# Altium integrated library Diode - Rectifier.IntLib: 777 symbols (part 12 of 12)
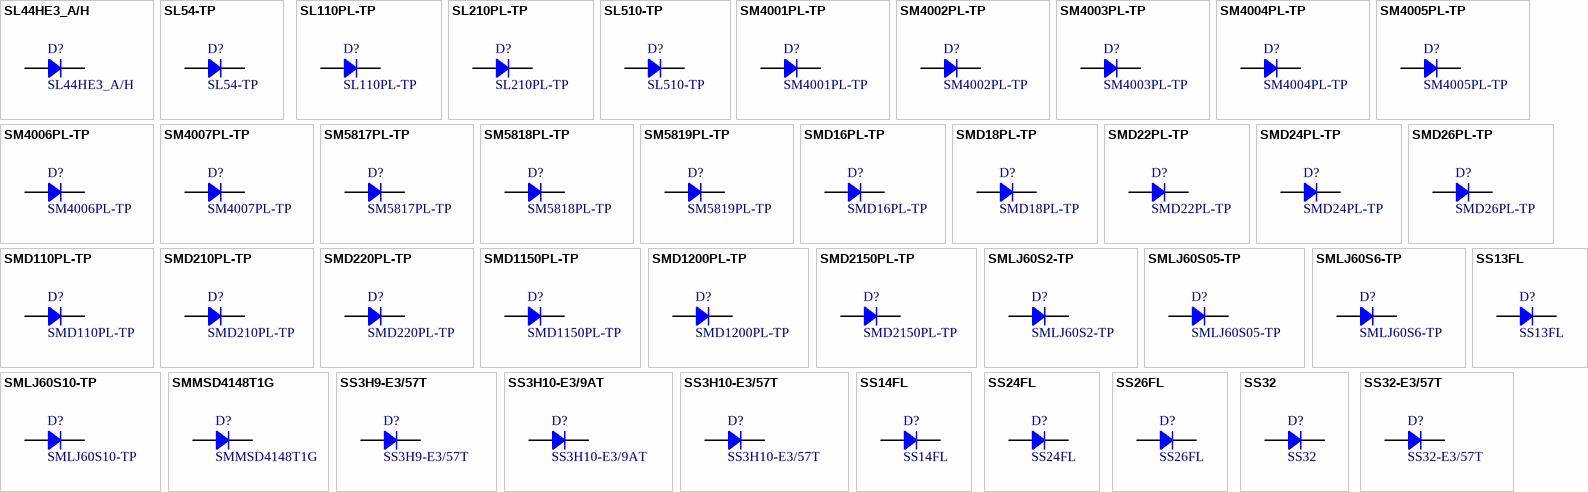
[diagram p30: symbols SL44HE3_A/H to SS32-E3/57T]

## SS14FL
designator D?
DIODE SCHOTTKY 40V 1A SOD123F; Manufacturer: Fairchild/ON Semiconductor; Current Reverse Leakage @ Vr: 30uA @ 40V; Reverse Recovery Time (trr): 5.695ns; Voltage Forward (Vf): 550mV @ 1A; Part Number: SS14FL; PartId: 29258; Supplier 1: Digi-Key; Supplier Part Number 1: SS14FLCT-ND; ComponentLink1Description: Datasheet; ComponentLink1URL: https://www.fairchildsemi.com/datasheets/SS/SS13FL.pdf; ComponentLink2Description: Digi-Key Listing; ComponentLink2URL: https://www.digikey.com/product-detail/en/fairchild-on-semiconductor/SS14FL/SS14FLCT-ND/5305092; Junction Operating Temperature: -55C ~ 125C; Price: 0.36; Type: Schottky; Device Package: SOD-123F; Voltage DC Reverse (Vr): 40V; Current Rectified: 1A
footprint SOD123F
pins: 1, 2

## SS24FL
designator D?
DIODE SCHOTTKY 40V 2A SOD123F; Manufacturer: Fairchild/ON Semiconductor; Current Reverse Leakage @ Vr: 100uA @ 40V; Reverse Recovery Time (trr): 9.495ns; Voltage Forward (Vf): 550mV @ 2A; Part Number: SS24FL; PartId: 29253; Supplier 1: Digi-Key; Supplier Part Number 1: SS24FLCT-ND; ComponentLink1Description: Datasheet; ComponentLink1URL: https://www.fairchildsemi.com/datasheets/SS/SS24FL.pdf; ComponentLink2Description: Digi-Key Listing; ComponentLink2URL: https://www.digikey.com/product-detail/en/fairchild-on-semiconductor/SS24FL/SS24FLCT-ND/5305093; Junction Operating Temperature: -55C ~ 125C; Price: 0.33; Type: Schottky; Device Package: SOD-123F; Voltage DC Reverse (Vr): 40V; Current Rectified: 2A
footprint SOD123F
pins: 1, 2

## SS26FL
designator D?
DIODE SCHOTTKY 60V 1A SOD123F; Manufacturer: Fairchild/ON Semiconductor; Current Reverse Leakage @ Vr: 40uA @ 60V; Reverse Recovery Time (trr): 8.26ns; Current Rectified: 2A; Voltage Forward (Vf): 700mV @ 2A; Part Number: SS26FL; PartId: 29271; Supplier 1: Digi-Key; Supplier Part Number 1: SS26FLCT-ND; ComponentLink1Description: Datasheet; ComponentLink1URL: https://www.fairchildsemi.com/datasheets/SS/SS24FL.pdf; ComponentLink2Description: Digi-Key Listing; ComponentLink2URL: https://www.digikey.com/product-detail/en/fairchild-on-semiconductor/SS26FL/SS26FLCT-ND/5305094; Junction Operating Temperature: -55C ~ 125C; Price: 0.4; Type: Schottky; Device Package: SOD-123F; Voltage DC Reverse (Vr): 60V
footprint SOD123F
pins: 1, 2

## SS32
designator D?
DIODE SCHOTTKY 20V 3A SMC; Manufacturer: Fairchild/ON Semiconductor; Current Reverse Leakage @ Vr: 500uA @ 20V; Voltage Forward (Vf): 500mV @ 3A; Part Number: SS32; PartId: 27730; Supplier 1: Digi-Key; Supplier Part Number 1: SS32CT-ND; ComponentLink1Description: Datasheet; ComponentLink1URL: https://www.fairchildsemi.com/datasheets/SS/SS34.pdf; ComponentLink2Description: Digi-Key Listing; ComponentLink2URL: https://www.digikey.com/product-detail/en/fairchild-on-semiconductor/SS32/SS32CT-ND/3042752; Junction Operating Temperature: -55C ~ 150C; Price: 0.54; Type: Schottky; Device Package: DO-214AB, SMC; Voltage DC Reverse (Vr): 20V; Current Rectified: 3A
footprint ST DO214AB SMC
pins: 1, 2

## SS32-E3/57T
designator D?
DIODE SCHOTTKY 20V 3A DO214AB; Manufacturer: Vishay Semiconductor Diodes Division; Current Reverse Leakage @ Vr: 500uA @ 20V; Voltage Forward (Vf): 500mV @ 3A; Part Number: SS32-E3/57T; PartId: 27744; Supplier 1: Digi-Key; Supplier Part Number 1: SS32-E3/57TGICT-ND; ComponentLink1Description: Datasheet; ComponentLink1URL: http://www.vishay.com/docs/88751/ss32.pdf; ComponentLink2Description: Digi-Key Listing; ComponentLink2URL: https://www.digikey.com/product-detail/en/vishay-semiconductor-diodes-division/SS32-E3-57T/SS32-E3-57TGICT-ND/1091683; Junction Operating Temperature: -55C ~ 125C; Price: 0.47; Type: Schottky; Device Package: DO-214AB, SMC; Voltage DC Reverse (Vr): 20V; Current Rectified: 3A
footprint ST DO214AB SMC
pins: 1, 2

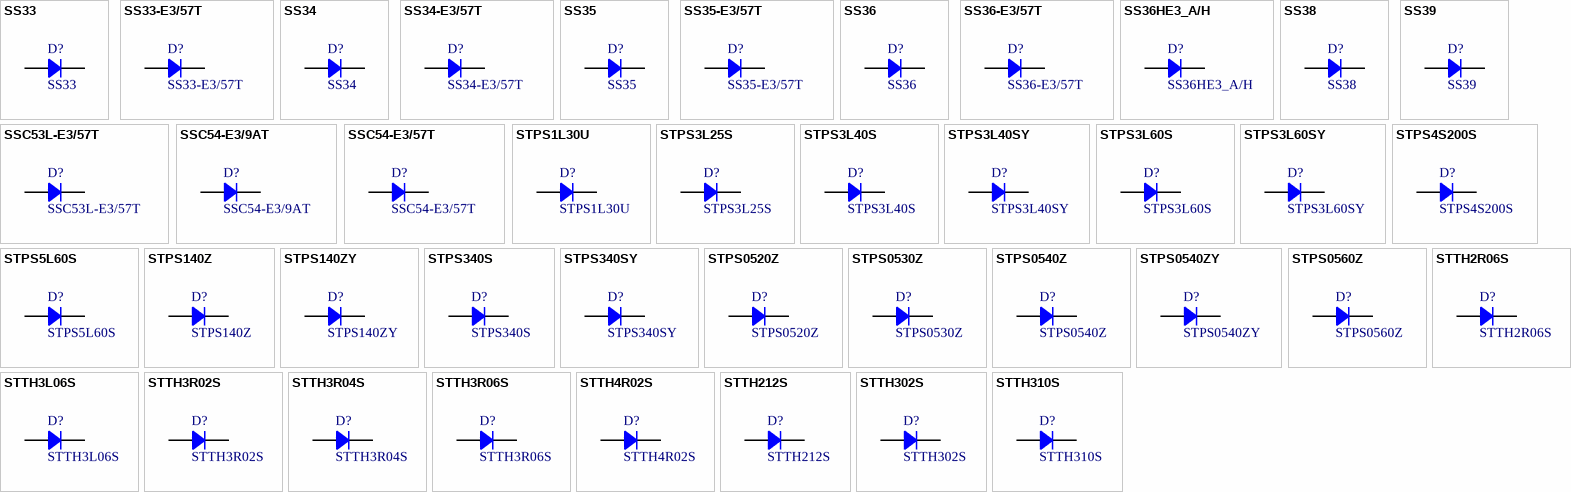
[diagram p18: symbols SS33 to STTH310S]

## SS33
designator D?
DIODE SCHOTTKY 30V 3A SMC; Manufacturer: Fairchild/ON Semiconductor; Current Reverse Leakage @ Vr: 500uA @ 30V; Voltage Forward (Vf): 500mV @ 3A; Part Number: SS33; PartId: 27901; Supplier 1: Digi-Key; Supplier Part Number 1: SS33FSCT-ND; ComponentLink1Description: Datasheet; ComponentLink1URL: https://www.fairchildsemi.com/datasheets/SS/SS34.pdf; ComponentLink2Description: Digi-Key Listing; ComponentLink2URL: https://www.digikey.com/product-detail/en/fairchild-on-semiconductor/SS33/SS33FSCT-ND/3042753; Junction Operating Temperature: -55C ~ 150C; Price: 0.54; Type: Schottky; Device Package: DO-214AB, SMC; Voltage DC Reverse (Vr): 30V; Current Rectified: 3A
footprint ST DO214AB SMC
pins: 1, 2

## SS33-E3/57T
designator D?
DIODE SCHOTTKY 30V 3A DO214AB; Manufacturer: Vishay Semiconductor Diodes Division; Current Reverse Leakage @ Vr: 500uA @ 30V; Voltage Forward (Vf): 500mV @ 3A; Part Number: SS33-E3/57T; PartId: 27899; Supplier 1: Digi-Key; Supplier Part Number 1: SS33-E3/57TGICT-ND; ComponentLink1Description: Datasheet; ComponentLink1URL: http://www.vishay.com/docs/88751/ss32.pdf; ComponentLink2Description: Digi-Key Listing; ComponentLink2URL: https://www.digikey.com/product-detail/en/vishay-semiconductor-diodes-division/SS33-E3-57T/SS33-E3-57TGICT-ND/3025929; Junction Operating Temperature: -55C ~ 125C; Price: 0.47; Type: Schottky; Device Package: DO-214AB, SMC; Voltage DC Reverse (Vr): 30V; Current Rectified: 3A
footprint ST DO214AB SMC
pins: 1, 2

## SS34
designator D?
DIODE SCHOTTKY 40V 3A SMC; Manufacturer: Fairchild/ON Semiconductor; Current Reverse Leakage @ Vr: 500uA @ 40V; Voltage Forward (Vf): 500mV @ 3A; Part Number: SS34; PartId: 27685; Supplier 1: Digi-Key; Supplier Part Number 1: SS34FSCT-ND; ComponentLink1Description: Datasheet; ComponentLink1URL: https://www.fairchildsemi.com/datasheets/SS/SS34.pdf; ComponentLink2Description: Digi-Key Listing; ComponentLink2URL: https://www.digikey.com/product-detail/en/fairchild-on-semiconductor/SS34/SS34FSCT-ND/2094459; Junction Operating Temperature: -55C ~ 150C; Price: 0.54; Type: Schottky; Device Package: DO-214AB, SMC; Voltage DC Reverse (Vr): 40V; Current Rectified: 3A
footprint ST DO214AB SMC
pins: 1, 2

## SS34-E3/57T
designator D?
DIODE SCHOTTKY 40V 3A DO214AB; Manufacturer: Vishay Semiconductor Diodes Division; Current Reverse Leakage @ Vr: 500uA @ 40V; Voltage Forward (Vf): 500mV @ 3A; Part Number: SS34-E3/57T; PartId: 27743; Supplier 1: Digi-Key; Supplier Part Number 1: SS34-E3/57TGICT-ND; ComponentLink1Description: Datasheet; ComponentLink1URL: http://www.vishay.com/docs/88751/ss32.pdf; ComponentLink2Description: Digi-Key Listing; ComponentLink2URL: https://www.digikey.com/product-detail/en/vishay-semiconductor-diodes-division/SS34-E3-57T/SS34-E3-57TGICT-ND/1091684; Junction Operating Temperature: -55C ~ 125C; Price: 0.47; Type: Schottky; Device Package: DO-214AB, SMC; Voltage DC Reverse (Vr): 40V; Current Rectified: 3A
footprint ST DO214AB SMC
pins: 1, 2

## SS35
designator D?
DIODE SCHOTTKY 50V 3A SMC; Manufacturer: Fairchild/ON Semiconductor; Current Reverse Leakage @ Vr: 500uA @ 50V; Voltage Forward (Vf): 750mV @ 3A; Part Number: SS35; PartId: 27776; Supplier 1: Digi-Key; Supplier Part Number 1: SS35FSCT-ND; ComponentLink1Description: Datasheet; ComponentLink1URL: https://www.fairchildsemi.com/datasheets/SS/SS34.pdf; ComponentLink2Description: Digi-Key Listing; ComponentLink2URL: https://www.digikey.com/product-detail/en/fairchild-on-semiconductor/SS35/SS35FSCT-ND/3478328; Junction Operating Temperature: -55C ~ 150C; Price: 0.58; Type: Schottky; Device Package: DO-214AB, SMC; Voltage DC Reverse (Vr): 50V; Current Rectified: 3A
footprint ST DO214AB SMC
pins: 1, 2

## SS35-E3/57T
designator D?
DIODE SCHOTTKY 50V 3A DO214AB; Manufacturer: Vishay Semiconductor Diodes Division; Current Reverse Leakage @ Vr: 500uA @ 50V; Voltage Forward (Vf): 750mV @ 3A; Part Number: SS35-E3/57T; PartId: 27783; Supplier 1: Digi-Key; Supplier Part Number 1: SS35-E3/57TGICT-ND; ComponentLink1Description: Datasheet; ComponentLink1URL: http://www.vishay.com/docs/88751/ss32.pdf; ComponentLink2Description: Digi-Key Listing; ComponentLink2URL: https://www.digikey.com/product-detail/en/vishay-semiconductor-diodes-division/SS35-E3-57T/SS35-E3-57TGICT-ND/3025930; Junction Operating Temperature: -55C ~ 150C; Price: 0.54; Type: Schottky; Device Package: DO-214AB, SMC; Voltage DC Reverse (Vr): 50V; Current Rectified: 3A
footprint ST DO214AB SMC
pins: 1, 2

## SS36
designator D?
DIODE SCHOTTKY 60V 3A SMC; Manufacturer: Fairchild/ON Semiconductor; Current Reverse Leakage @ Vr: 500uA @ 60V; Voltage Forward (Vf): 750mV @ 3A; Part Number: SS36; PartId: 27845; Supplier 1: Digi-Key; Supplier Part Number 1: SS36FSCT-ND; ComponentLink1Description: Datasheet; ComponentLink1URL: https://www.fairchildsemi.com/datasheets/SS/SS34.pdf; ComponentLink2Description: Digi-Key Listing; ComponentLink2URL: https://www.digikey.com/product-detail/en/fairchild-on-semiconductor/SS36/SS36FSCT-ND/3042754; Junction Operating Temperature: -55C ~ 150C; Price: 0.58; Type: Schottky; Device Package: DO-214AB, SMC; Voltage DC Reverse (Vr): 60V; Current Rectified: 3A
footprint ST DO214AB SMC
pins: 1, 2

## SS36-E3/57T
designator D?
DIODE SCHOTTKY 60V 3A DO214AB; Manufacturer: Vishay Semiconductor Diodes Division; Current Reverse Leakage @ Vr: 500uA @ 60V; Voltage Forward (Vf): 750mV @ 3A; Part Number: SS36-E3/57T; PartId: 27691; Supplier 1: Digi-Key; Supplier Part Number 1: SS36-E3/57TGICT-ND; ComponentLink1Description: Datasheet; ComponentLink1URL: http://www.vishay.com/docs/88751/ss32.pdf; ComponentLink2Description: Digi-Key Listing; ComponentLink2URL: https://www.digikey.com/product-detail/en/vishay-semiconductor-diodes-division/SS36-E3-57T/SS36-E3-57TGICT-ND/1091685; Junction Operating Temperature: -55C ~ 150C; Price: 0.48; Type: Schottky; Device Package: DO-214AB, SMC; Voltage DC Reverse (Vr): 60V; Current Rectified: 3A
footprint ST DO214AB SMC
pins: 1, 2

## SS36HE3_A/H
designator D?
DIODE SCHOTTKY 60V 3A DO214AB; Manufacturer: Vishay Semiconductor Diodes Division; Current Reverse Leakage @ Vr: 500uA @ 60V; Voltage Forward (Vf): 750mV @ 3A; Part Number: SS36HE3_A/H; PartId: 27786; Supplier 1: Digi-Key; Supplier Part Number 1: SS36HE3_A/HGICT-ND; ComponentLink1Description: Datasheet; ComponentLink1URL: http://www.vishay.com/docs/88751/ss32.pdf; ComponentLink2Description: Digi-Key Listing; ComponentLink2URL: https://www.digikey.com/product-detail/en/vishay-semiconductor-diodes-division/SS36HE3_A-H/SS36HE3_A-HGICT-ND/4743580; Junction Operating Temperature: -55C ~ 150C; Price: 0.66; Type: Schottky; Device Package: DO-214AB, SMC; Voltage DC Reverse (Vr): 60V; Current Rectified: 3A
footprint ST DO214AB SMC
pins: 1, 2

## SS38
designator D?
DIODE SCHOTTKY 80V 3A SMC; Manufacturer: Fairchild/ON Semiconductor; Current Reverse Leakage @ Vr: 500uA @ 80V; Voltage Forward (Vf): 850mV @ 3A; Part Number: SS38; PartId: 27737; Supplier 1: Digi-Key; Supplier Part Number 1: SS38FSCT-ND; ComponentLink1Description: Datasheet; ComponentLink1URL: https://www.fairchildsemi.com/datasheets/SS/SS34.pdf; ComponentLink2Description: Digi-Key Listing; ComponentLink2URL: https://www.digikey.com/product-detail/en/fairchild-on-semiconductor/SS38/SS38FSCT-ND/3478346; Junction Operating Temperature: -55C ~ 150C; Price: 0.6; Type: Schottky; Device Package: DO-214AB, SMC; Voltage DC Reverse (Vr): 80V; Current Rectified: 3A
footprint ST DO214AB SMC
pins: 1, 2

## SS39
designator D?
DIODE SCHOTTKY 90V 3A SMC; Manufacturer: Fairchild/ON Semiconductor; Current Reverse Leakage @ Vr: 500uA @ 90V; Voltage Forward (Vf): 850mV @ 3A; Part Number: SS39; PartId: 27847; Supplier 1: Digi-Key; Supplier Part Number 1: SS39CT-ND; ComponentLink1Description: Datasheet; ComponentLink1URL: https://www.fairchildsemi.com/datasheets/SS/SS34.pdf; ComponentLink2Description: Digi-Key Listing; ComponentLink2URL: https://www.digikey.com/product-detail/en/fairchild-on-semiconductor/SS39/SS39CT-ND/4314866; Junction Operating Temperature: -55C ~ 150C; Price: 0.6; Type: Schottky; Device Package: DO-214AB, SMC; Voltage DC Reverse (Vr): 90V; Current Rectified: 3A
footprint ST DO214AB SMC
pins: 1, 2

## SSC53L-E3/57T
designator D?
DIODE SCHOTTKY 30V 5A DO214AB; Manufacturer: Vishay Semiconductor Diodes Division; Current Reverse Leakage @ Vr: 700uA @ 30V; Voltage Forward (Vf): 450mV @ 5A; Part Number: SSC53L-E3/57T; PartId: 27704; Supplier 1: Digi-Key; Supplier Part Number 1: SSC53L-E3/57TGICT-ND; ComponentLink1Description: Datasheet; ComponentLink1URL: http://www.vishay.com/docs/88885/ssc53l.pdf; ComponentLink2Description: Digi-Key Listing; ComponentLink2URL: https://www.digikey.com/product-detail/en/vishay-semiconductor-diodes-division/SSC53L-E3-57T/SSC53L-E3-57TGICT-ND/1091693; Junction Operating Temperature: -65C ~ 150C; Price: 0.61; Type: Schottky; Device Package: DO-214AB, SMC; Voltage DC Reverse (Vr): 30V; Current Rectified: 5A
footprint ST DO214AB SMC
pins: 1, 2

## SSC54-E3/9AT
designator D?
DIODE SCHOTTKY 40V 5A DO214AB; Manufacturer: Vishay Semiconductor Diodes Division; Current Reverse Leakage @ Vr: 500uA @ 40V; Voltage Forward (Vf): 490mV @ 5A; Part Number: SSC54-E3/9AT; PartId: 27741; Supplier 1: Digi-Key; Supplier Part Number 1: SSC54-E3/9ATGICT-ND; ComponentLink1Description: Datasheet; ComponentLink1URL: http://www.vishay.com/docs/88885/ssc53l.pdf; ComponentLink2Description: Digi-Key Listing; ComponentLink2URL: https://www.digikey.com/product-detail/en/vishay-semiconductor-diodes-division/SSC54-E3-9AT/SSC54-E3-9ATGICT-ND/3847580; Junction Operating Temperature: -65C ~ 150C; Price: 0.59; Type: Schottky; Device Package: DO-214AB, SMC; Voltage DC Reverse (Vr): 40V; Current Rectified: 5A
footprint ST DO214AB SMC
pins: 1, 2

## SSC54-E3/57T
designator D?
DIODE SCHOTTKY 40V 5A DO214AB; Manufacturer: Vishay Semiconductor Diodes Division; Current Reverse Leakage @ Vr: 500uA @ 40V; Voltage Forward (Vf): 490mV @ 5A; Part Number: SSC54-E3/57T; PartId: 27703; Supplier 1: Digi-Key; Supplier Part Number 1: SSC54-E3/57TGICT-ND; ComponentLink1Description: Datasheet; ComponentLink1URL: http://www.vishay.com/docs/88885/ssc53l.pdf; ComponentLink2Description: Digi-Key Listing; ComponentLink2URL: https://www.digikey.com/product-detail/en/vishay-semiconductor-diodes-division/SSC54-E3-57T/SSC54-E3-57TGICT-ND/1091694; Junction Operating Temperature: -65C ~ 150C; Price: 0.59; Type: Schottky; Device Package: DO-214AB, SMC; Voltage DC Reverse (Vr): 40V; Current Rectified: 5A
footprint ST DO214AB SMC
pins: 1, 2

## STPS1L30U
designator D?
DIODE SCHOTTKY 30V 1A SMB; Manufacturer: STMicroelectronics; Type: Surface Mount; Current Reverse Leakage @ Vr: 200uA @ 30V; Voltage Forward (Vf): 395mV @ 1A; Part Number: STPS1L30U; PartId: 7128; Supplier 1: Digi-Key; Supplier Part Number 1: 497-2468-2-ND; ComponentLink1Description: Datasheet; ComponentLink1URL: http://www.st.com/web/en/resource/technical/document/datasheet/CD00001323.pdf; ComponentLink2Description: Digi-Key Listing; ComponentLink2URL: http://www.digikey.ca/product-detail/en/STPS1L30U/497-2468-2-ND/603493; Junction Operating Temperature: 150C (Max); Price: 0.1443; Device Package: DO-214AA, SMB; Reverse Recovery Time (trr): -; Voltage DC Reverse (Vr): 30V; Current Rectified: 1A
footprint DO214AA SMB
pins: 1, 2

## STPS3L25S
designator D?
DIODE SCHOTTKY 25V 3A SMC; Manufacturer: STMicroelectronics; Current Reverse Leakage @ Vr: 90uA @ 25V; Voltage Forward (Vf): 490mV @ 3A; Part Number: STPS3L25S; PartId: 27780; Supplier 1: Digi-Key; Supplier Part Number 1: 497-3760-1-ND; ComponentLink1Description: Datasheet; ComponentLink1URL: http://www.st.com/content/ccc/resource/technical/document/datasheet/02/aa/f1/a2/d1/29/4b/ea/CD00001528.pdf/files/CD00001528.pdf/jcr:content/translations/en.CD00001528.pdf; ComponentLink2Description: Digi-Key Listing; ComponentLink2URL: https://www.digikey.com/product-detail/en/stmicroelectronics/STPS3L25S/497-3760-1-ND/691930; Junction Operating Temperature: 150C (Max); Price: 0.64; Type: Schottky; Device Package: DO-214AB, SMC; Voltage DC Reverse (Vr): 25V; Current Rectified: 3A
footprint ST DO214AB SMC
pins: 1, 2

## STPS3L40S
designator D?
DIODE SCHOTTKY 40V 3A SMC; Manufacturer: STMicroelectronics; Current Reverse Leakage @ Vr: 100uA @ 40V; Voltage Forward (Vf): 500mV @ 3A; Part Number: STPS3L40S; PartId: 27854; Supplier 1: Digi-Key; Supplier Part Number 1: 497-4673-1-ND; ComponentLink1Description: Datasheet; ComponentLink1URL: http://www.st.com/content/ccc/resource/technical/document/datasheet/group1/48/52/98/4d/1d/c7/40/65/CD00002082/files/CD00002082.pdf/jcr:content/translations/en.CD00002082.pdf; ComponentLink2Description: Digi-Key Listing; ComponentLink2URL: https://www.digikey.com/product-detail/en/stmicroelectronics/STPS3L40S/497-4673-1-ND/810985; Junction Operating Temperature: 150C (Max); Price: 0.66; Type: Schottky; Device Package: DO-214AB, SMC; Voltage DC Reverse (Vr): 40V; Current Rectified: 3A
footprint ST DO214AB SMC
pins: 1, 2

## STPS3L40SY
designator D?
DIODE SCHOTTKY 40V 3A SMC; Manufacturer: STMicroelectronics; Current Reverse Leakage @ Vr: 100uA @ 40V; Voltage Forward (Vf): 500mV @ 3A; Part Number: STPS3L40SY; PartId: 27870; Supplier 1: Digi-Key; Supplier Part Number 1: 497-12868-1-ND; ComponentLink1Description: Datasheet; ComponentLink1URL: http://www.st.com/content/ccc/resource/technical/document/datasheet/b1/99/92/36/e9/9b/4e/52/DM00024410.pdf/files/DM00024410.pdf/jcr:content/translations/en.DM00024410.pdf; ComponentLink2Description: Digi-Key Listing; ComponentLink2URL: https://www.digikey.com/product-detail/en/stmicroelectronics/STPS3L40SY/497-12868-1-ND/3043779; Junction Operating Temperature: -40C ~ 150C; Price: 0.89; Type: Schottky; Device Package: DO-214AB, SMC; Voltage DC Reverse (Vr): 40V; Current Rectified: 3A
footprint ST DO214AB SMC
pins: 1, 2

## STPS3L60S
designator D?
DIODE SCHOTTKY 60V 3A SMC; Manufacturer: STMicroelectronics; Current Reverse Leakage @ Vr: 55uA @ 60V; Voltage Forward (Vf): 700mV @ 3A; Part Number: STPS3L60S; PartId: 27721; Supplier 1: Digi-Key; Supplier Part Number 1: 497-2454-1-ND; ComponentLink1Description: Datasheet; ComponentLink1URL: http://www.st.com/content/ccc/resource/technical/document/datasheet/group0/36/0d/d1/5d/3b/c8/42/c0/CD00001711/files/CD00001711.pdf/jcr:content/translations/en.CD00001711.pdf; ComponentLink2Description: Digi-Key Listing; ComponentLink2URL: https://www.digikey.com/product-detail/en/stmicroelectronics/STPS3L60S/497-2454-1-ND/603836; Junction Operating Temperature: 150C (Max); Price: 0.5; Type: Schottky; Device Package: DO-214AB, SMC; Voltage DC Reverse (Vr): 60V; Current Rectified: 3A
footprint ST DO214AB SMC
pins: 1, 2

## STPS3L60SY
designator D?
DIODE SCHOTTKY 60V 3A SMC; Manufacturer: STMicroelectronics; Current Reverse Leakage @ Vr: 55uA @ 60V; Voltage Forward (Vf): 700mV @ 3A; Part Number: STPS3L60SY; PartId: 27868; Supplier 1: Digi-Key; Supplier Part Number 1: 497-12333-1-ND; ComponentLink1Description: Datasheet; ComponentLink1URL: http://www.st.com/content/ccc/resource/technical/document/datasheet/53/5c/9e/64/96/26/47/ae/CD00274270.pdf/files/CD00274270.pdf/jcr:content/translations/en.CD00274270.pdf; ComponentLink2Description: Digi-Key Listing; ComponentLink2URL: https://www.digikey.com/product-detail/en/stmicroelectronics/STPS3L60SY/497-12333-1-ND/2826738; Junction Operating Temperature: -40C ~ 150C; Price: 0.85; Type: Schottky; Device Package: DO-214AB, SMC; Voltage DC Reverse (Vr): 60V; Current Rectified: 3A
footprint ST DO214AB SMC
pins: 1, 2

## STPS4S200S
designator D?
DIODE RECT SCHOTTKY 200V 4A; Manufacturer: STMicroelectronics; Current Reverse Leakage @ Vr: 5uA @ 200V; Voltage Forward (Vf): 870mV @ 4A; Part Number: STPS4S200S; PartId: 27735; Supplier 1: Digi-Key; Supplier Part Number 1: 497-16320-1-ND; ComponentLink1Description: Datasheet; ComponentLink1URL: http://www.st.com/content/ccc/resource/technical/document/datasheet/f1/ca/76/fb/56/90/40/1c/DM00136818.pdf/files/DM00136818.pdf/jcr:content/translations/en.DM00136818.pdf; ComponentLink2Description: Digi-Key Listing; ComponentLink2URL: https://www.digikey.com/product-detail/en/stmicroelectronics/STPS4S200S/497-16320-1-ND/5848346; Junction Operating Temperature: 175C (Max); Price: 0.58; Type: Schottky; Device Package: DO-214AB, SMC; Voltage DC Reverse (Vr): 200V; Current Rectified: 4A
footprint ST DO214AB SMC
pins: 1, 2

## STPS5L60S
designator D?
DIODE SCHOTTKY 60V 5A SMC; Manufacturer: STMicroelectronics; Current Reverse Leakage @ Vr: 220uA @ 60V; Voltage Forward (Vf): 520mV @ 5A; Part Number: STPS5L60S; PartId: 27696; Supplier 1: Digi-Key; Supplier Part Number 1: 497-8487-1-ND; ComponentLink1Description: Datasheet; ComponentLink1URL: http://www.st.com/content/ccc/resource/technical/document/datasheet/57/3c/bc/f9/25/f5/43/2b/CD00002924.pdf/files/CD00002924.pdf/jcr:content/translations/en.CD00002924.pdf; ComponentLink2Description: Digi-Key Listing; ComponentLink2URL: https://www.digikey.com/product-detail/en/stmicroelectronics/STPS5L60S/497-8487-1-ND/1985325; Junction Operating Temperature: 150C (Max); Price: 0.69; Type: Schottky; Device Package: DO-214AB, SMC; Voltage DC Reverse (Vr): 60V; Current Rectified: 5A
footprint ST DO214AB SMC
pins: 1, 2

## STPS140Z
designator D?
DIODE SCHOTTKY 40V 1A SOD123; Manufacturer: STMicroelectronics; Current Reverse Leakage @ Vr: 40uA @ 400V; Current Rectified: 1A (DC); Voltage Forward (Vf): 550mV @ 1A; Part Number: STPS140Z; PartId: 29395; Supplier 1: Digi-Key; Supplier Part Number 1: 497-7546-1-ND; ComponentLink1Description: Datasheet; ComponentLink1URL: http://www.st.com/content/ccc/resource/technical/document/datasheet/e8/dc/78/46/6d/26/4e/a0/CD00001851.pdf/files/CD00001851.pdf/jcr:content/translations/en.CD00001851.pdf; ComponentLink2Description: Digi-Key Listing; ComponentLink2URL: https://www.digikey.com/product-detail/en/stmicroelectronics/STPS140Z/497-7546-1-ND/1883349; Junction Operating Temperature: 150C (Max); Price: 0.45; Type: Schottky; Device Package: SOD-123; Voltage DC Reverse (Vr): 40V
footprint SOD-123
pins: 1, 2

## STPS140ZY
designator D?
DIODE SCHOTTKY 40V 1A SOD123; Manufacturer: STMicroelectronics; Current Reverse Leakage @ Vr: 40uA @ 400V; Current Rectified: 1A (DC); Voltage Forward (Vf): 550mV @ 1A; Part Number: STPS140ZY; PartId: 29432; Supplier 1: Digi-Key; Supplier Part Number 1: 497-13845-1-ND; ComponentLink1Description: Datasheet; ComponentLink1URL: http://www.st.com/content/ccc/resource/technical/document/datasheet/98/f4/9b/66/f4/9b/4e/52/DM00068605.pdf/files/DM00068605.pdf/jcr:content/translations/en.DM00068605.pdf; ComponentLink2Description: Digi-Key Listing; ComponentLink2URL: https://www.digikey.com/product-detail/en/stmicroelectronics/STPS140ZY/497-13845-1-ND/4250499; Junction Operating Temperature: -40C ~ 150C; Price: 0.57; Type: Schottky; Device Package: SOD-123; Voltage DC Reverse (Vr): 40V
footprint SOD-123
pins: 1, 2

## STPS340S
designator D?
DIODE SCHOTTKY 40V 3A SMC; Manufacturer: STMicroelectronics; Current Reverse Leakage @ Vr: 20uA @ 40V; Voltage Forward (Vf): 630mV @ 3A; Part Number: STPS340S; PartId: 27722; Supplier 1: Digi-Key; Supplier Part Number 1: 497-2464-1-ND; ComponentLink1Description: Datasheet; ComponentLink1URL: http://www.st.com/content/ccc/resource/technical/document/datasheet/bb/db/21/0c/04/d9/41/a5/CD00000844.pdf/files/CD00000844.pdf/jcr:content/translations/en.CD00000844.pdf; ComponentLink2Description: Digi-Key Listing; ComponentLink2URL: https://www.digikey.com/product-detail/en/stmicroelectronics/STPS340S/497-2464-1-ND/603846; Junction Operating Temperature: 150C (Max); Price: 0.4; Type: Schottky; Device Package: DO-214AB, SMC; Voltage DC Reverse (Vr): 40V; Current Rectified: 3A
footprint ST DO214AB SMC
pins: 1, 2

## STPS340SY
designator D?
DIODE SCHOTTKY 40V 3A SMC; Manufacturer: STMicroelectronics; Current Reverse Leakage @ Vr: 20uA @ 40V; Voltage Forward (Vf): 630mV @ 3A; Part Number: STPS340SY; PartId: 27865; Supplier 1: Digi-Key; Supplier Part Number 1: 497-13431-1-ND; ComponentLink1Description: Datasheet; ComponentLink1URL: http://www.st.com/content/ccc/resource/technical/document/datasheet/9d/f4/fa/9f/2c/39/45/91/CD00270569.pdf/files/CD00270569.pdf/jcr:content/translations/en.CD00270569.pdf; ComponentLink2Description: Digi-Key Listing; ComponentLink2URL: https://www.digikey.com/product-detail/en/stmicroelectronics/STPS340SY/497-13431-1-ND/3770077; Junction Operating Temperature: -40C ~ 150C; Price: 0.8; Type: Schottky; Device Package: DO-214AB, SMC; Voltage DC Reverse (Vr): 40V; Current Rectified: 3A
footprint ST DO214AB SMC
pins: 1, 2

## STPS0520Z
designator D?
DIODE SCHOTTKY 20V 500MA SOD123; Manufacturer: STMicroelectronics; Current Reverse Leakage @ Vr: 150uA @ 20V; Voltage Forward (Vf): 385mV @ 500mA; Part Number: STPS0520Z; PartId: 29392; Supplier 1: Digi-Key; Supplier Part Number 1: 497-3205-1-ND; ComponentLink1Description: Datasheet; ComponentLink1URL: http://www.st.com/content/ccc/resource/technical/document/datasheet/05/6e/89/e6/e6/82/4a/7c/CD00002261.pdf/files/CD00002261.pdf/jcr:content/translations/en.CD00002261.pdf; ComponentLink2Description: Digi-Key Listing; ComponentLink2URL: https://www.digikey.com/product-detail/en/stmicroelectronics/STPS0520Z/497-3205-1-ND/654548; Junction Operating Temperature: 125C (Max); Price: 0.38; Type: Schottky; Device Package: SOD-123; Voltage DC Reverse (Vr): 20V; Current Rectified: 500mA
footprint SOD-123
pins: 1, 2

## STPS0530Z
designator D?
DIODE SCHOTTKY 30V 500MA SOD123; Manufacturer: STMicroelectronics; Current Reverse Leakage @ Vr: 130uA @ 30V; Voltage Forward (Vf): 430mV @ 500mA; Part Number: STPS0530Z; PartId: 29412; Supplier 1: Digi-Key; Supplier Part Number 1: 497-16204-1-ND; ComponentLink1Description: Datasheet; ComponentLink1URL: http://www.st.com/content/ccc/resource/technical/document/datasheet/63/57/b0/4d/d8/2a/43/5e/CD00003272.pdf/files/CD00003272.pdf/jcr:content/translations/en.CD00003272.pdf; ComponentLink2Description: Digi-Key Listing; ComponentLink2URL: https://www.digikey.com/product-detail/en/stmicroelectronics/STPS0530Z/497-16204-1-ND/5764826; Junction Operating Temperature: 150C (Max); Price: 0.38; Type: Schottky; Device Package: SOD-123; Voltage DC Reverse (Vr): 30V; Current Rectified: 500mA
footprint SOD-123
pins: 1, 2

## STPS0540Z
designator D?
DIODE SCHOTTKY 40V 500MA SOD123; Manufacturer: STMicroelectronics; Current Reverse Leakage @ Vr: 40uA @ 40V; Voltage Forward (Vf): 500mV @ 500mA; Part Number: STPS0540Z; PartId: 29393; Supplier 1: Digi-Key; Supplier Part Number 1: 497-7538-1-ND; ComponentLink1Description: Datasheet; ComponentLink1URL: http://www.st.com/content/ccc/resource/technical/document/datasheet/group1/0f/03/9b/7c/50/58/48/d7/CD00001852/files/CD00001852.pdf/jcr:content/translations/en.CD00001852.pdf; ComponentLink2Description: Digi-Key Listing; ComponentLink2URL: https://www.digikey.com/product-detail/en/stmicroelectronics/STPS0540Z/497-7538-1-ND/1883366; Junction Operating Temperature: 150C (Max); Price: 0.38; Type: Schottky; Device Package: SOD-123; Voltage DC Reverse (Vr): 40V; Current Rectified: 500mA
footprint SOD-123
pins: 1, 2

## STPS0540ZY
designator D?
DIODE SCHOTTKY 40V 500MA SOD123; Manufacturer: STMicroelectronics; Current Reverse Leakage @ Vr: 40uA @ 40V; Voltage Forward (Vf): 500mV @ 500mA; Part Number: STPS0540ZY; PartId: 29397; Supplier 1: Digi-Key; Supplier Part Number 1: 497-12278-1-ND; ComponentLink1Description: Datasheet; ComponentLink1URL: http://www.st.com/content/ccc/resource/technical/document/datasheet/81/c5/d5/b9/59/c3/48/91/CD00285444.pdf/files/CD00285444.pdf/jcr:content/translations/en.CD00285444.pdf; ComponentLink2Description: Digi-Key Listing; ComponentLink2URL: https://www.digikey.com/product-detail/en/stmicroelectronics/STPS0540ZY/497-12278-1-ND/2826779; Junction Operating Temperature: -40C ~ 150C; Price: 0.44; Type: Schottky; Device Package: SOD-123; Voltage DC Reverse (Vr): 40V; Current Rectified: 500mA
footprint SOD-123
pins: 1, 2

## STPS0560Z
designator D?
DIODE SCHOTTKY 60V 500MA SOD123; Manufacturer: STMicroelectronics; Current Reverse Leakage @ Vr: 50uA @ 60V; Voltage Forward (Vf): 530mV @ 500mA; Part Number: STPS0560Z; PartId: 29391; Supplier 1: Digi-Key; Supplier Part Number 1: 497-3787-1-ND; ComponentLink1Description: Datasheet; ComponentLink1URL: http://www.st.com/content/ccc/resource/technical/document/datasheet/group1/0f/03/9b/7c/50/58/48/d7/CD00001852/files/CD00001852.pdf/jcr:content/translations/en.CD00001852.pdf; ComponentLink2Description: Digi-Key Listing; ComponentLink2URL: https://www.digikey.com/product-detail/en/stmicroelectronics/STPS0560Z/497-3787-1-ND/691956; Junction Operating Temperature: 150C (Max); Price: 0.38; Type: Schottky; Device Package: SOD-123; Voltage DC Reverse (Vr): 60V; Current Rectified: 500mA
footprint SOD-123
pins: 1, 2

## STTH2R06S
designator D?
DIODE GEN PURP 600V 2A SMC; Manufacturer: STMicroelectronics; Type: Standard; Current Reverse Leakage @ Vr: 2uA @ 600V; Reverse Recovery Time (trr): 50ns; Voltage Forward (Vf): 1.7V @ 2A; Part Number: STTH2R06S; PartId: 27793; Supplier 1: Digi-Key; Supplier Part Number 1: 497-4674-1-ND; ComponentLink1Description: Datasheet; ComponentLink1URL: http://www.st.com/content/ccc/resource/technical/document/datasheet/fe/4e/e1/d9/af/18/4b/81/CD00043011.pdf/files/CD00043011.pdf/jcr:content/translations/en.CD00043011.pdf; ComponentLink2Description: Digi-Key Listing; ComponentLink2URL: https://www.digikey.com/product-detail/en/stmicroelectronics/STTH2R06S/497-4674-1-ND/810986; Junction Operating Temperature: -40C ~ 175C; Price: 0.84; Device Package: DO-214AB, SMC; Voltage DC Reverse (Vr): 600V; Current Rectified: 2A
footprint ST DO214AB SMC
pins: 1, 2

## STTH3L06S
designator D?
DIODE GEN PURP 600V 3A SMC; Manufacturer: STMicroelectronics; Type: Standard; Current Reverse Leakage @ Vr: 3uA @ 600V; Reverse Recovery Time (trr): 85ns; Voltage Forward (Vf): 1.3V @ 3A; Part Number: STTH3L06S; PartId: 27779; Supplier 1: Digi-Key; Supplier Part Number 1: 497-3764-1-ND; ComponentLink1Description: Datasheet; ComponentLink1URL: http://www.st.com/content/ccc/resource/technical/document/datasheet/f6/90/dd/9a/be/a3/46/5b/CD00002695.pdf/files/CD00002695.pdf/jcr:content/translations/en.CD00002695.pdf; ComponentLink2Description: Digi-Key Listing; ComponentLink2URL: https://www.digikey.com/product-detail/en/stmicroelectronics/STTH3L06S/497-3764-1-ND/691934; Junction Operating Temperature: 175C (Max); Price: 0.61; Device Package: DO-214AB, SMC; Voltage DC Reverse (Vr): 600V; Current Rectified: 3A
footprint ST DO214AB SMC
pins: 1, 2

## STTH3R02S
designator D?
DIODE GEN PURP 200V 3A SMC; Manufacturer: STMicroelectronics; Type: Standard; Current Reverse Leakage @ Vr: 3uA @ 200V; Reverse Recovery Time (trr): 30ns; Voltage Forward (Vf): 1V @ 3A; Part Number: STTH3R02S; PartId: 27773; Supplier 1: Digi-Key; Supplier Part Number 1: 497-6085-1-ND; ComponentLink1Description: Datasheet; ComponentLink1URL: http://www.st.com/content/ccc/resource/technical/document/datasheet/d5/b9/d4/2c/03/2f/4e/61/CD00110333.pdf/files/CD00110333.pdf/jcr:content/translations/en.CD00110333.pdf; ComponentLink2Description: Digi-Key Listing; ComponentLink2URL: https://www.digikey.com/product-detail/en/stmicroelectronics/STTH3R02S/497-6085-1-ND/1654018; Junction Operating Temperature: 175C (Max); Price: 0.53; Device Package: DO-214AB, SMC; Voltage DC Reverse (Vr): 200V; Current Rectified: 3A
footprint ST DO214AB SMC
pins: 1, 2

## STTH3R04S
designator D?
DIODE GEN PURP 400V 3A SMC; Manufacturer: STMicroelectronics; Type: Standard; Current Reverse Leakage @ Vr: 5uA @ 400V; Reverse Recovery Time (trr): 35ns; Voltage Forward (Vf): 1.5V @ 3A; Part Number: STTH3R04S; PartId: 27732; Supplier 1: Digi-Key; Supplier Part Number 1: 497-15791-1-ND; ComponentLink1Description: Datasheet; ComponentLink1URL: http://www.st.com/content/ccc/resource/technical/document/datasheet/59/8d/cf/2a/cc/37/45/18/CD00199070.pdf/files/CD00199070.pdf/jcr:content/translations/en.CD00199070.pdf; ComponentLink2Description: Digi-Key Listing; ComponentLink2URL: https://www.digikey.com/product-detail/en/stmicroelectronics/STTH3R04S/497-15791-1-ND/5287063; Junction Operating Temperature: 175C (Max); Price: 0.57; Device Package: DO-214AB, SMC; Voltage DC Reverse (Vr): 400V; Current Rectified: 3A
footprint ST DO214AB SMC
pins: 1, 2

## STTH3R06S
designator D?
DIODE GEN PURP 600V 3A SMC; Manufacturer: STMicroelectronics; Type: Standard; Current Reverse Leakage @ Vr: 3uA @ 600V; Reverse Recovery Time (trr): 35ns; Voltage Forward (Vf): 1.7V @ 3A; Part Number: STTH3R06S; PartId: 27745; Supplier 1: Digi-Key; Supplier Part Number 1: 497-3779-1-ND; ComponentLink1Description: Datasheet; ComponentLink1URL: http://www.st.com/content/ccc/resource/technical/document/datasheet/19/d9/55/c8/42/58/40/35/CD00005137.pdf/files/CD00005137.pdf/jcr:content/translations/en.CD00005137.pdf; ComponentLink2Description: Digi-Key Listing; ComponentLink2URL: https://www.digikey.com/product-detail/en/stmicroelectronics/STTH3R06S/497-3779-1-ND/691949; Junction Operating Temperature: 175C (Max); Price: 0.63; Device Package: DO-214AB, SMC; Voltage DC Reverse (Vr): 600V; Current Rectified: 3A
footprint ST DO214AB SMC
pins: 1, 2

## STTH4R02S
designator D?
DIODE GEN PURP 200V 4A SMC; Manufacturer: STMicroelectronics; Type: Standard; Current Reverse Leakage @ Vr: 3uA @ 200V; Reverse Recovery Time (trr): 30ns; Voltage Forward (Vf): 1.05V @ 4A; Part Number: STTH4R02S; PartId: 27733; Supplier 1: Digi-Key; Supplier Part Number 1: 497-5766-1-ND; ComponentLink1Description: Datasheet; ComponentLink1URL: http://www.st.com/content/ccc/resource/technical/document/datasheet/group2/77/06/45/43/43/c3/43/79/CD00110337/files/CD00110337.pdf/jcr:content/translations/en.CD00110337.pdf; ComponentLink2Description: Digi-Key Listing; ComponentLink2URL: https://www.digikey.com/product-detail/en/stmicroelectronics/STTH4R02S/497-5766-1-ND/1299993; Junction Operating Temperature: 175C (Max); Price: 0.57; Device Package: DO-214AB, SMC; Voltage DC Reverse (Vr): 200V; Current Rectified: 4A
footprint ST DO214AB SMC
pins: 1, 2

## STTH212S
designator D?
DIODE GEN PURP 1.2KV 2A SMC; Manufacturer: STMicroelectronics; Type: Standard; Current Reverse Leakage @ Vr: 10uA @ 1200V; Reverse Recovery Time (trr): 75ns; Voltage DC Reverse (Vr): 1200V (1.2kV); Voltage Forward (Vf): 1.75V @ 2A; Part Number: STTH212S; PartId: 27710; Supplier 1: Digi-Key; Supplier Part Number 1: 497-4754-1-ND; ComponentLink1Description: Datasheet; ComponentLink1URL: http://www.st.com/content/ccc/resource/technical/document/datasheet/49/b8/dd/3c/c1/33/47/cb/CD00060993.pdf/files/CD00060993.pdf/jcr:content/translations/en.CD00060993.pdf; ComponentLink2Description: Digi-Key Listing; ComponentLink2URL: https://www.digikey.com/product-detail/en/stmicroelectronics/STTH212S/497-4754-1-ND/954225; Junction Operating Temperature: 175C (Max); Price: 1.01; Device Package: DO-214AB, SMC; Current Rectified: 2A
footprint ST DO214AB SMC
pins: 1, 2

## STTH302S
designator D?
DIODE GEN PURP 200V 3A SMC; Manufacturer: STMicroelectronics; Type: Standard; Current Reverse Leakage @ Vr: 3uA @ 200V; Reverse Recovery Time (trr): 35ns; Voltage Forward (Vf): 950mV @ 3A; Part Number: STTH302S; PartId: 27848; Supplier 1: Digi-Key; Supplier Part Number 1: 497-5230-1-ND; ComponentLink1Description: Datasheet; ComponentLink1URL: http://www.st.com/content/ccc/resource/technical/document/datasheet/bc/ad/88/88/7d/b3/47/3b/CD00002930.pdf/files/CD00002930.pdf/jcr:content/translations/en.CD00002930.pdf; ComponentLink2Description: Digi-Key Listing; ComponentLink2URL: https://www.digikey.com/product-detail/en/stmicroelectronics/STTH302S/497-5230-1-ND/1121683; Junction Operating Temperature: 175C (Max); Price: 0.61; Device Package: DO-214AB, SMC; Voltage DC Reverse (Vr): 200V; Current Rectified: 3A
footprint ST DO214AB SMC
pins: 1, 2

## STTH310S
designator D?
DIODE GEN PURP 1KV 3A SMC; Manufacturer: STMicroelectronics; Type: Standard; Current Reverse Leakage @ Vr: 10uA @ 1000V; Reverse Recovery Time (trr): 75ns; Voltage DC Reverse (Vr): 1000V (1kV); Voltage Forward (Vf): 1.7V @ 3A; Part Number: STTH310S; PartId: 27749; Supplier 1: Digi-Key; Supplier Part Number 1: 497-8053-1-ND; ComponentLink1Description: Datasheet; ComponentLink1URL: http://www.st.com/content/ccc/resource/technical/document/datasheet/f0/b1/00/a8/73/e7/47/68/CD00003263.pdf/files/CD00003263.pdf/jcr:content/translations/en.CD00003263.pdf; ComponentLink2Description: Digi-Key Listing; ComponentLink2URL: https://www.digikey.com/product-detail/en/stmicroelectronics/STTH310S/497-8053-1-ND/1883598; Junction Operating Temperature: -40C ~ 175C; Price: 0.67; Device Package: DO-214AB, SMC; Current Rectified: 3A
footprint ST DO214AB SMC
pins: 1, 2

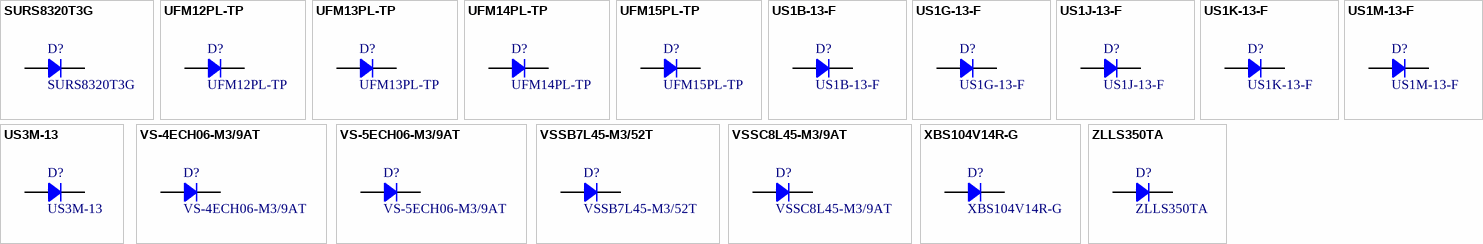
[diagram p19: symbols SURS8320T3G to ZLLS350TA]

## SURS8320T3G
designator D?
DIODE GEN PURP 200V 3A SMC; Manufacturer: ON Semiconductor; Type: Standard; Current Reverse Leakage @ Vr: 5uA @ 200V; Reverse Recovery Time (trr): 35ns; Voltage Forward (Vf): 875mV @ 3A; Part Number: SURS8320T3G; PartId: 27864; Supplier 1: Digi-Key; Supplier Part Number 1: SURS8320T3GOSCT-ND; ComponentLink1Description: Datasheet; ComponentLink1URL: http://www.onsemi.com/pub_link/Collateral/MURS320T3-D.PDF; ComponentLink2Description: Digi-Key Listing; ComponentLink2URL: https://www.digikey.com/product-detail/en/on-semiconductor/SURS8320T3G/SURS8320T3GOSCT-ND/5969087; Junction Operating Temperature: -65C ~ 175C; Price: 0.75; Device Package: DO-214AB, SMC; Voltage DC Reverse (Vr): 200V; Current Rectified: 3A
footprint ST DO214AB SMC
pins: 1, 2

## UFM12PL-TP
designator D?
DIODE GEN PURP 100V 1A SOD123FL; Manufacturer: Micro Commercial Co; Type: Standard; Current Reverse Leakage @ Vr: 10uA @ 100V; Reverse Recovery Time (trr): 35ns; Voltage Forward (Vf): 1V @ 1A; Part Number: UFM12PL-TP; PartId: 29209; Supplier 1: Digi-Key; Supplier Part Number 1: UFM12PL-TPMSCT-ND; ComponentLink1Description: Datasheet; ComponentLink1URL: http://www.mccsemi.com/up_pdf/UFM11PL~UFM17PL(SOD-123FL).pdf; ComponentLink2Description: Digi-Key Listing; ComponentLink2URL: https://www.digikey.com/product-detail/en/micro-commercial-co/UFM12PL-TP/UFM12PL-TPMSCT-ND/2041566; Junction Operating Temperature: -65C ~ 150C; Price: 0.54; Device Package: SOD-123F; Voltage DC Reverse (Vr): 100V; Current Rectified: 1A
footprint SOD123F
pins: 1, 2

## UFM13PL-TP
designator D?
DIODE GEN PURP 200V 1A SOD123FL; Manufacturer: Micro Commercial Co; Type: Standard; Current Reverse Leakage @ Vr: 10uA @ 200V; Reverse Recovery Time (trr): 35ns; Voltage Forward (Vf): 1V @ 1A; Part Number: UFM13PL-TP; PartId: 29334; Supplier 1: Digi-Key; Supplier Part Number 1: UFM13PL-TPMSCT-ND; ComponentLink1Description: Datasheet; ComponentLink1URL: http://www.mccsemi.com/up_pdf/UFM11PL~UFM17PL(SOD-123FL).pdf; ComponentLink2Description: Digi-Key Listing; ComponentLink2URL: https://www.digikey.com/product-detail/en/micro-commercial-co/UFM13PL-TP/UFM13PL-TPMSCT-ND/2041567; Junction Operating Temperature: -65C ~ 150C; Price: 0.54; Device Package: SOD-123F; Voltage DC Reverse (Vr): 200V; Current Rectified: 1A
footprint SOD123F
pins: 1, 2

## UFM14PL-TP
designator D?
DIODE GEN PURP 400V 1A SOD123FL; Manufacturer: Micro Commercial Co; Type: Standard; Current Reverse Leakage @ Vr: 10uA @ 400V; Reverse Recovery Time (trr): 50ns; Voltage Forward (Vf): 1.4V @ 1A; Part Number: UFM14PL-TP; PartId: 29210; Supplier 1: Digi-Key; Supplier Part Number 1: UFM14PL-TPMSCT-ND; ComponentLink1Description: Datasheet; ComponentLink1URL: http://www.mccsemi.com/up_pdf/UFM11PL~UFM17PL(SOD-123FL).pdf; ComponentLink2Description: Digi-Key Listing; ComponentLink2URL: https://www.digikey.com/product-detail/en/micro-commercial-co/UFM14PL-TP/UFM14PL-TPMSCT-ND/2041568; Junction Operating Temperature: -65C ~ 150C; Price: 0.54; Device Package: SOD-123F; Voltage DC Reverse (Vr): 400V; Current Rectified: 1A
footprint SOD123F
pins: 1, 2

## UFM15PL-TP
designator D?
DIODE GEN PURP 600V 1A SOD123FL; Manufacturer: Micro Commercial Co; Type: Standard; Current Reverse Leakage @ Vr: 10uA @ 600V; Reverse Recovery Time (trr): 75ns; Voltage Forward (Vf): 1.7V @ 1A; Part Number: UFM15PL-TP; PartId: 29208; Supplier 1: Digi-Key; Supplier Part Number 1: UFM15PL-TPMSCT-ND; ComponentLink1Description: Datasheet; ComponentLink1URL: http://www.mccsemi.com/up_pdf/UFM11PL~UFM17PL(SOD-123FL).pdf; ComponentLink2Description: Digi-Key Listing; ComponentLink2URL: https://www.digikey.com/product-detail/en/micro-commercial-co/UFM15PL-TP/UFM15PL-TPMSCT-ND/2041569; Junction Operating Temperature: -65C ~ 150C; Price: 0.54; Device Package: SOD-123F; Voltage DC Reverse (Vr): 600V; Current Rectified: 1A
footprint SOD123F
pins: 1, 2

## US1B-13-F
designator D?
DIODE GEN PURP 100V 1A SMA; Manufacturer: Diodes Incorporated; Type: Standard; Current Reverse Leakage @ Vr: 5uA @ 100V; Reverse Recovery Time (trr): 50ns; Voltage Forward (Vf): 1V @ 1A; Part Number: US1B-13-F; PartId: 16351; Supplier 1: Digi-Key; Supplier Part Number 1: US1B-FDITR-ND; ComponentLink1Description: Datasheet; ComponentLink1URL: http://www.diodes.com/_files/datasheets/ds16008.pdf; ComponentLink2Description: Digi-Key Listing; ComponentLink2URL: https://www.digikey.com/product-detail/en/diodes-incorporated/US1B-13-F/US1B-FDITR-ND/750002; Junction Operating Temperature: -65C ~ 150C; Price: 0.085; Device Package: DO-214AC, SMA; Voltage DC Reverse (Vr): 100V; Current Rectified: 1A
footprint DO214AC SMA
pins: 1, 2

## US1G-13-F
designator D?
DIODE GEN PURP 400V 1A SMA; Manufacturer: Diodes Incorporated; Type: Standard; Current Reverse Leakage @ Vr: 5uA @ 400V; Reverse Recovery Time (trr): 50ns; Voltage Forward (Vf): 1.3V @ 1A; Part Number: US1G-13-F; PartId: 16329; Supplier 1: Digi-Key; Supplier Part Number 1: US1G-FDITR-ND; ComponentLink1Description: Datasheet; ComponentLink1URL: http://www.diodes.com/_files/datasheets/ds16008.pdf; ComponentLink2Description: Digi-Key Listing; ComponentLink2URL: https://www.digikey.com/product-detail/en/diodes-incorporated/US1G-13-F/US1G-FDITR-ND/814656; Junction Operating Temperature: -65C ~ 150C; Price: 0.0935; Device Package: DO-214AC, SMA; Voltage DC Reverse (Vr): 400V; Current Rectified: 1A
footprint DO214AC SMA
pins: 1, 2

## US1J-13-F
designator D?
DIODE GEN PURP 600V 1A SMA; Manufacturer: Diodes Incorporated; Type: Standard; Current Reverse Leakage @ Vr: 5uA @ 600V; Reverse Recovery Time (trr): 75ns; Voltage Forward (Vf): 1.7V @ 1A; Part Number: US1J-13-F; PartId: 16324; Supplier 1: Digi-Key; Supplier Part Number 1: US1J-FDITR-ND; ComponentLink1Description: Datasheet; ComponentLink1URL: http://www.diodes.com/_files/datasheets/ds16008.pdf; ComponentLink2Description: Digi-Key Listing; ComponentLink2URL: https://www.digikey.com/product-detail/en/diodes-incorporated/US1J-13-F/US1J-FDITR-ND/815279; Junction Operating Temperature: -65C ~ 150C; Price: 0.085; Device Package: DO-214AC, SMA; Voltage DC Reverse (Vr): 600V; Current Rectified: 1A
footprint DO214AC SMA
pins: 1, 2

## US1K-13-F
designator D?
DIODE GEN PURP 800V 1A SMA; Manufacturer: Diodes Incorporated; Type: Standard; Current Reverse Leakage @ Vr: 5uA @ 800V; Reverse Recovery Time (trr): 75ns; Voltage Forward (Vf): 1.7V @ 1A; Part Number: US1K-13-F; PartId: 16334; Supplier 1: Digi-Key; Supplier Part Number 1: US1K-FDITR-ND; ComponentLink1Description: Datasheet; ComponentLink1URL: http://www.diodes.com/_files/datasheets/ds16008.pdf; ComponentLink2Description: Digi-Key Listing; ComponentLink2URL: https://www.digikey.com/product-detail/en/diodes-incorporated/US1K-13-F/US1K-FDITR-ND/768356; Junction Operating Temperature: -65C ~ 150C; Price: 0.1085; Device Package: DO-214AC, SMA; Voltage DC Reverse (Vr): 800V; Current Rectified: 1A
footprint DO214AC SMA
pins: 1, 2

## US1M-13-F
designator D?
DIODE GEN PURP 1KV 1A SMA; Manufacturer: Diodes Incorporated; Type: Standard; Current Reverse Leakage @ Vr: 5uA @ 1000V; Reverse Recovery Time (trr): 75ns; Voltage DC Reverse (Vr): 1000V (1kV); Voltage Forward (Vf): 1.7V @ 1A; Part Number: US1M-13-F; PartId: 16323; Supplier 1: Digi-Key; Supplier Part Number 1: US1M-FDITR-ND; ComponentLink1Description: Datasheet; ComponentLink1URL: http://www.diodes.com/_files/datasheets/ds16008.pdf; ComponentLink2Description: Digi-Key Listing; ComponentLink2URL: https://www.digikey.com/product-detail/en/diodes-incorporated/US1M-13-F/US1M-FDITR-ND/775762; Junction Operating Temperature: -65C ~ 150C; Price: 0.085; Device Package: DO-214AC, SMA; Current Rectified: 1A
footprint DO214AC SMA
pins: 1, 2

## US3M-13
designator D?
DIODE GEN PURP 1KV 3A SMC; Manufacturer: Diodes Incorporated; Type: Standard; Current Reverse Leakage @ Vr: 10uA @ 1000V; Reverse Recovery Time (trr): 85ns; Voltage DC Reverse (Vr): 1000V (1kV); Voltage Forward (Vf): 1.8V @ 3A; Part Number: US3M-13; PartId: 27805; Supplier 1: Digi-Key; Supplier Part Number 1: US3M-13DICT-ND; ComponentLink1Description: Datasheet; ComponentLink1URL: http://diodes.com/_files/datasheets/US3M.pdf; ComponentLink2Description: Digi-Key Listing; ComponentLink2URL: https://www.digikey.com/product-detail/en/diodes-incorporated/US3M-13/US3M-13DICT-ND/5360946; Junction Operating Temperature: -65C ~ 175C; Price: 0.58; Device Package: DO-214AB, SMC; Current Rectified: 3A
footprint ST DO214AB SMC
pins: 1, 2

## VS-4ECH06-M3/9AT
designator D?
DIODE GEN PURP 600V 4A DO214AB; Manufacturer: Vishay Semiconductor Diodes Division; Type: Standard; Current Reverse Leakage @ Vr: 3uA @ 600V; Reverse Recovery Time (trr): 22ns; Voltage Forward (Vf): 1.85V @ 4A; Part Number: VS-4ECH06-M3/9AT; PartId: 27755; Supplier 1: Digi-Key; Supplier Part Number 1: VS-4ECH06-M3/9ATGICT-ND; ComponentLink1Description: Datasheet; ComponentLink1URL: http://www.vishay.com/docs/94777/vs-4ech06-m3.pdf; ComponentLink2Description: Digi-Key Listing; ComponentLink2URL: https://www.digikey.com/product-detail/en/vishay-semiconductor-diodes-division/VS-4ECH06-M3-9AT/VS-4ECH06-M3-9ATGICT-ND/4810671; Junction Operating Temperature: -55C ~ 175C; Price: 0.78; Device Package: DO-214AB, SMC; Voltage DC Reverse (Vr): 600V; Current Rectified: 4A
footprint ST DO214AB SMC
pins: 1, 2

## VS-5ECH06-M3/9AT
designator D?
DIODE GEN PURP 600V 5A DO214AB; Manufacturer: Vishay Semiconductor Diodes Division; Type: Standard; Current Reverse Leakage @ Vr: 3uA @ 600V; Reverse Recovery Time (trr): 23ns; Voltage Forward (Vf): 1.95V @ 5A; Part Number: VS-5ECH06-M3/9AT; PartId: 27758; Supplier 1: Digi-Key; Supplier Part Number 1: VS-5ECH06-M3/9ATGICT-ND; ComponentLink1Description: Datasheet; ComponentLink1URL: http://www.vishay.com/docs/94779/vs-5ech06-m3.pdf; ComponentLink2Description: Digi-Key Listing; ComponentLink2URL: https://www.digikey.com/product-detail/en/vishay-semiconductor-diodes-division/VS-5ECH06-M3-9AT/VS-5ECH06-M3-9ATGICT-ND/4810673; Junction Operating Temperature: -55C ~ 175C; Price: 0.92; Device Package: DO-214AB, SMC; Voltage DC Reverse (Vr): 600V; Current Rectified: 5A
footprint ST DO214AB SMC
pins: 1, 2

## VSSB7L45-M3/52T
designator D?
DIODE SCHOTTKY 45V 3.8A DO214AA; Manufacturer: Vishay Semiconductor Diodes Division; Type: Surface Mount; Current Reverse Leakage @ Vr: 1.6mA @ 45V; Voltage Forward (Vf): 430mV @ 3.5A; Part Number: VSSB7L45-M3/52T; PartId: 7131; Supplier 1: Digi-Key; Supplier Part Number 1: VSSB7L45-M3/52TGITR-ND; ComponentLink1Description: Datasheet; ComponentLink1URL: http://www.vishay.com/docs/87792/vssb7l45-m3.pdf; ComponentLink2Description: Digi-Key Listing; ComponentLink2URL: http://www.digikey.ca/product-detail/en/VSSB7L45-M3%2F52T/VSSB7L45-M3%2F52TGITR-ND/5039336; Junction Operating Temperature: -40C ~ 150C; Price: 0.3117; Device Package: DO-214AA, SMB; Reverse Recovery Time (trr): -; Voltage DC Reverse (Vr): 45V; Current Rectified: 3.8A
footprint DO214AA SMB
pins: 1, 2

## VSSC8L45-M3/9AT
designator D?
DIODE SCHOTTKY 45V 4.9A DO214AB; Manufacturer: Vishay Semiconductor Diodes Division; Type: Surface Mount; Current Reverse Leakage @ Vr: 1.85mA @ 45V; Voltage Forward (Vf): 420mV @ 4A; Part Number: VSSC8L45-M3/9AT; PartId: 7159; Supplier 1: Digi-Key; Supplier Part Number 1: VSSC8L45-M3/9ATGITR-ND; ComponentLink1Description: Datasheet; ComponentLink1URL: http://www.vishay.com/docs/87793/vssc8l45-m3.pdf; ComponentLink2Description: Digi-Key Listing; ComponentLink2URL: http://www.digikey.ca/product-detail/en/VSSC8L45-M3%2F9AT/VSSC8L45-M3%2F9ATGITR-ND/5120218; Junction Operating Temperature: -40C ~ 150C; Price: 0.2861; Device Package: DO-214AB, SMC; Reverse Recovery Time (trr): -; Voltage DC Reverse (Vr): 45V; Current Rectified: 4.9A
footprint DO214AB SMC
pins: 1, 2

## XBS104V14R-G
designator D?
DIODE SCHOTTKY 40V 1A SOD123A; Manufacturer: Torex Semiconductor Ltd; Current Reverse Leakage @ Vr: 2mA @ 40V; Reverse Recovery Time (trr): 41ns; Voltage Forward (Vf): 410mV @ 1A; Part Number: XBS104V14R-G; PartId: 29398; Supplier 1: Digi-Key; Supplier Part Number 1: 893-1193-1-ND; ComponentLink1Description: Datasheet; ComponentLink1URL: https://www.torexsemi.com/file/xbs104v14r/XBS104V14R.pdf; ComponentLink2Description: Digi-Key Listing; ComponentLink2URL: https://www.digikey.com/product-detail/en/torex-semiconductor-ltd/XBS104V14R-G/893-1193-1-ND/3906797; Junction Operating Temperature: 125C (Max); Price: 0.43; Type: Schottky; Device Package: SOD-123; Voltage DC Reverse (Vr): 40V; Current Rectified: 1A
footprint SOD-123
pins: 1, 2

## ZLLS350TA
designator D?
DIODE SCHOTTKY 40V 380MA SOD523; Manufacturer: Diodes Incorporated; Type: Surface Mount; Current Reverse Leakage @ Vr: 4uA @ 30V; Reverse Recovery Time (trr): 1ns; Current Rectified: 380mA (DC); Voltage Forward (Vf): 1V @ 275mA; Part Number: ZLLS350TA; PartId: 7155; Supplier 1: Digi-Key; Supplier Part Number 1: ZLLS350TATR-ND; ComponentLink1Description: Datasheet; ComponentLink1URL: http://www.diodes.com/_files/datasheets/ZLLS350.pdf; ComponentLink2Description: Digi-Key Listing; ComponentLink2URL: http://www.digikey.ca/product-detail/en/ZLLS350TA/ZLLS350TATR-ND/991168; Junction Operating Temperature: 150C (Max); Price: 0.2112; Device Package: SC-79, SOD-523; Voltage DC Reverse (Vr): 40V
footprint SOD523F
pins: 1, 2